# Altium footprint library LABLIB.PcbLib: 95 footprints (part 3 of 6)
Each footprint in its own frame and in the unit in brackets; x right, y up, seen from the top. Pads: shape width x height; smd on the part's side, far side on the other; paste and mask are expansions set on the pad; w line width, h text height; cw(c..) or ccw(c..) is an arc to the next point about the centre after c.
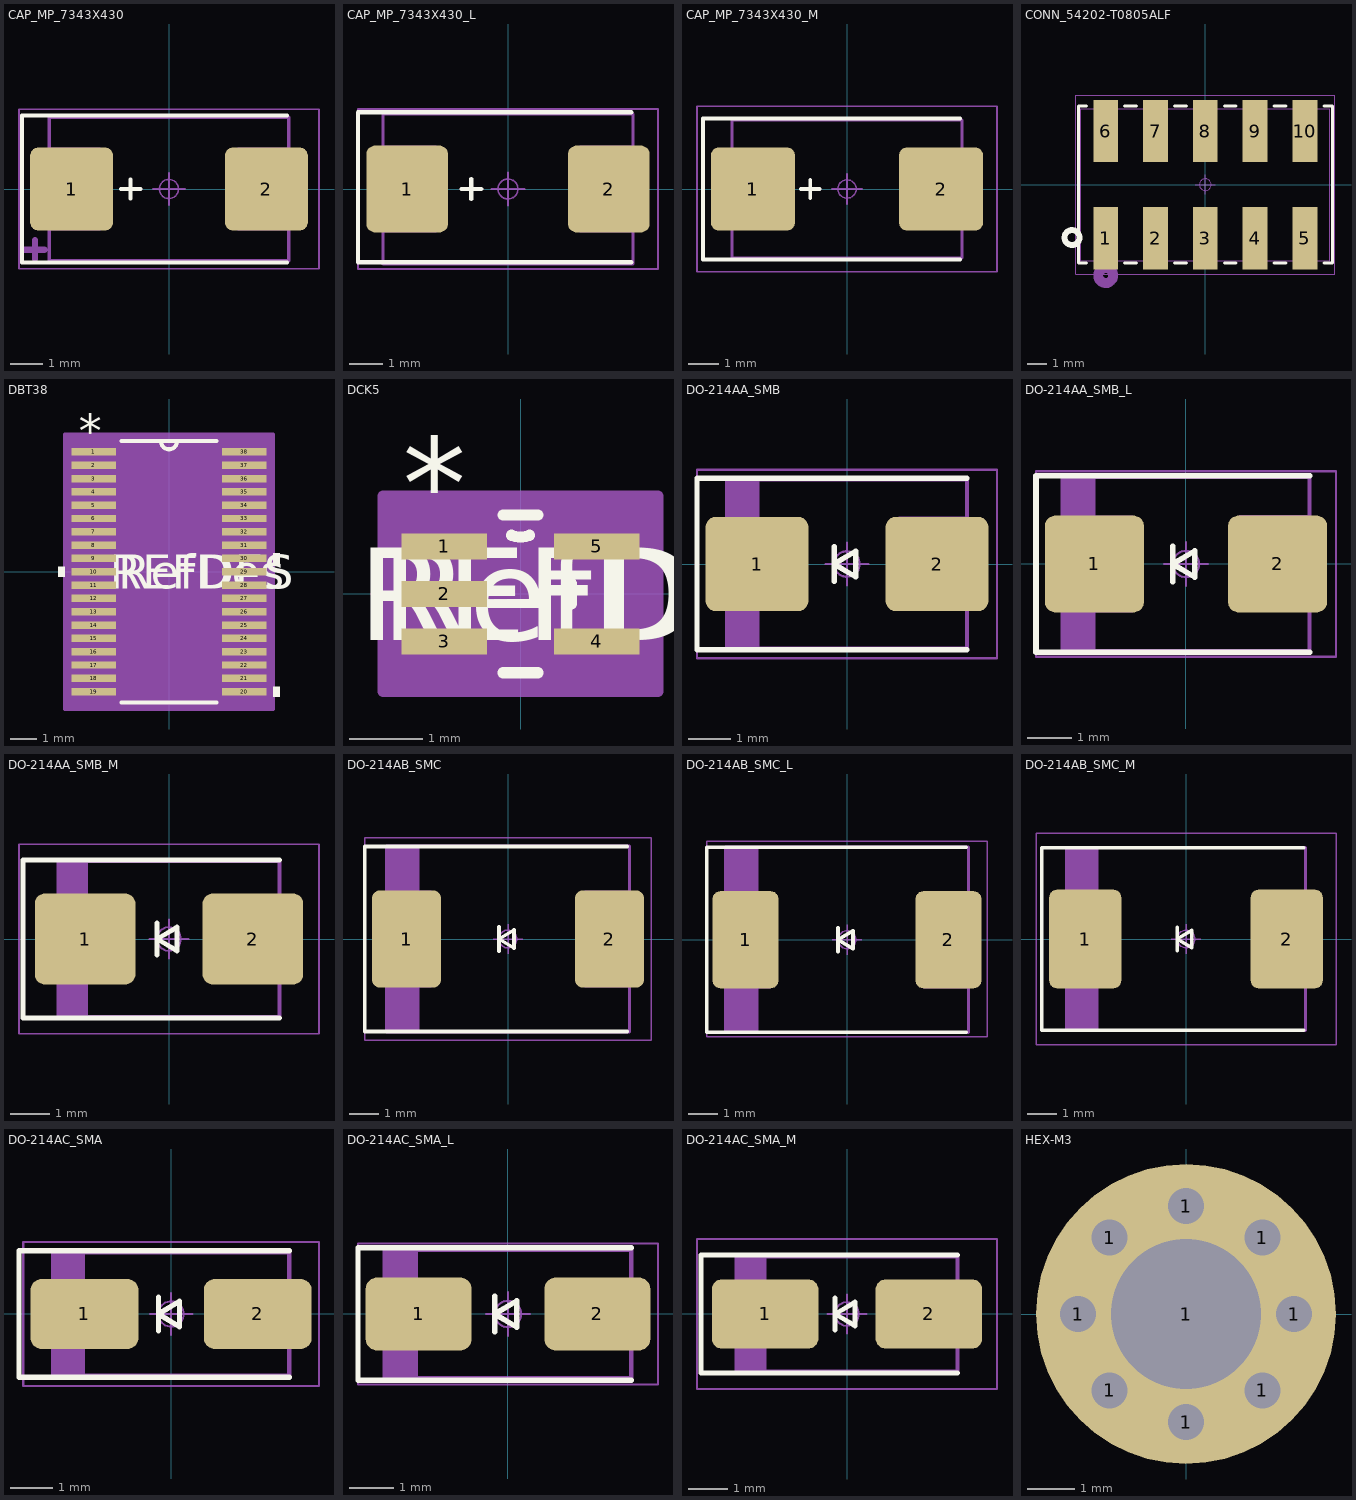
[diagram p2: the footprints below, top view; thin cyan lines are the x and y axes]

## CAP_MP_7343X430 [mm] "Molded Capacitor, 2-Leads, Body 7.30x4.35mm, IPC Medium Density"
height 4.3
pads (2):
  rrect19% 2.6x2.6 smd: 1(-3.05,0) 2(3.05,0)
Top Overlay:
  lines w0.125: -1.5,0 -0.9,0 ; -1.2,-0.3 -1.2,0.3 ; 3.7,-2.3 -4.6,-2.3 -4.6,2.3 3.7,2.3
Top Assembly:
  lines w0.1: -3.75,-2.25 -3.75,2.25 3.75,2.25 3.75,-2.25 -3.75,-2.25
  lines w0.2: -4.5,-1.9 -3.9,-1.9 ; -4.2,-2.2 -4.2,-1.9 ; -4.2,-1.6 -4.2,-1.9 ; -4.2,-1.9 -4.2,-1.9
  text "'.Designator'" at -3.952,-0.622 h1.5
Top Courtyard:
  lines w0.05: -4.7,-2.5 -4.7,2.5 4.7,2.5 4.7,-2.5 -4.7,-2.5
Top Component Outline:
  rectangle: -3.75,-1.3 -2.15,1.3
  region: 3.75,1.3 2.15,1.3 2.15,-1.3 3.75,-1.3
  lines w0.05: -3.75,-2.25 -3.75,2.25 3.75,2.25 3.75,-2.25 -3.75,-2.25
Top Component Center:
  circle w0.05: c0,0 r0.3
  lines w0.05: -0.5,0 0.5,0 ; 0,-0.5 0,0.5
3D body "TAJE_AVX.step": height 4.37, standoff 0, extent -3.746,-2.248 3.746,2.248

## CAP_MP_7343X430_L [mm] "Molded Capacitor, 2-Leads, Body 7.30x4.35mm, IPC Medium Density"
height 4.3
pads (2):
  rrect20% 2.45x2.6 smd: 1(-3.025,0) 2(3.025,0)
Top Overlay:
  lines w0.125: -1.4,0 -0.8,0 ; -1.1,-0.3 -1.1,0.3 ; 3.7,-2.2 -4.5,-2.2 -4.5,2.3 3.7,2.3
Top Assembly:
  lines w0.1: -3.75,-2.25 -3.75,2.25 3.75,2.25 3.75,-2.25 -3.75,-2.25
  text "'.Designator'" at -3.952,-0.622 h1.5
Top Courtyard:
  lines w0.05: -4.5,-2.4 -4.5,2.4 4.5,2.4 4.5,-2.4 -4.5,-2.4
Top Component Outline:
  rectangle: -3.75,-1.3 -2.15,1.3
  region: 3.75,1.3 2.15,1.3 2.15,-1.3 3.75,-1.3
  lines w0.05: -3.75,-2.25 -3.75,2.25 3.75,2.25 3.75,-2.25 -3.75,-2.25
Top Component Center:
  circle w0.05: c0,0 r0.3
  lines w0.05: -0.5,0 0.5,0 ; 0,-0.5 0,0.5
3D body "TAJE_AVX.step": height 4.37, standoff 0, extent -3.746,-2.248 3.746,2.248

## CAP_MP_7343X430_M [mm] "Molded Capacitor, 2-Leads, Body 7.30x4.35mm, IPC Medium Density"
height 4.3
pads (2):
  rrect18% 2.75x2.7 smd: 1(-3.075,0) 2(3.075,0)
Top Overlay:
  lines w0.125: -1.5,0 -0.9,0 ; -1.2,-0.3 -1.2,0.3 ; 3.7,-2.3 -4.7,-2.3 -4.7,2.3 3.7,2.3
Top Assembly:
  lines w0.1: -3.75,-2.25 -3.75,2.25 3.75,2.25 3.75,-2.25 -3.75,-2.25
  text "'.Designator'" at -3.952,-0.622 h1.5
Top Courtyard:
  lines w0.05: -4.9,-2.7 4.9,-2.7 4.9,2.7 -4.9,2.7 -4.9,-2.7
Top Component Outline:
  region: 3.75,1.3 2.15,1.3 2.15,-1.3 3.75,-1.3
  rectangle: -3.75,-1.3 -2.15,1.3
  lines w0.05: -3.75,-2.25 3.75,-2.25 3.75,2.25 -3.75,2.25 -3.75,-2.25
Top Component Center:
  circle w0.05: c0,0 r0.3
  lines w0.05: -0.5,0 0.5,0 ; 0,-0.5 0,0.5
3D body "TAJE_AVX.step": height 4.37, standoff 0, extent -3.746,-2.248 3.746,2.248

## CONN_54202-T0805ALF [mil]
pads (10):
  rect 50x125 smd paste+0 mask+0: 1(-200,-107.5) 2(-100,-107.5) 3(0,-107.5) 4(100,-107.5) 5(200,-107.5) 6(-200,107.5) 7(-100,107.5) 8(0,107.5) 9(100,107.5) 10(200,107.5)
Top Overlay:
  circle w11.81: c-267.72,-106.3 r15
  lines w6: -238.1,-157.5 -255,-157.5 -255,157.5 -238.1,157.5 ; -161.9,-157.5 -138.1,-157.5 ; -161.9,157.5 -138.1,157.5 ; -61.9,-157.5 -38.1,-157.5 ; -61.9,157.5 -38.1,157.5 ; 38.1,-157.5 61.9,-157.5 ; 38.1,157.5 61.9,157.5 ; 138.1,-157.5 161.9,-157.5 ; 138.1,157.5 161.9,157.5 ; 238.1,-157.5 255,-157.5 255,157.5 238.1,157.5
Bottom Overlay:
  circle w20: c-325,-107.5 r15
Top Assembly:
  circle w20: c-200,-182.5 r15
  lines w1: -250,-152.5 250,-152.5 250,152.5 -250,152.5 -250,-152.5
  text "'.Designator'" at -155.57,-24.48 h59.06
Top Courtyard:
  lines w1.97: -260,-180 -260,180 260,180 260,-180 -260,-180
Top Component Center:
  circle w1.97: c0,0 r11.81
  lines w1.97: -19.68,0 19.68,0 ; 0,-19.68 0,19.68
3D body "54202-T0805ALF.STEP": height 379.92, standoff 0, extent -250,-145.08 250,145.08

## DBT38 [mil]
pads (38):
  rect 66x11 smd paste-33 mask-33: 1(-111,177.17) 2(-111,157.48) 3(-111,137.8) 4(-111,118.11) 5(-111,98.43) 6(-111,78.74) 7(-111,59.06) 8(-111,39.37) 9(-111,19.68) 10(-111,0) 11(-111,-19.68) 12(-111,-39.37) 13(-111,-59.06) 14(-111,-78.74) 15(-111,-98.43) 16(-111,-118.11) 17(-111,-137.8) 18(-111,-157.48) 19(-111,-177.17) 20(111,-177.17) 21(111,-157.48) 22(111,-137.8) 23(111,-118.11) 24(111,-98.43) 25(111,-78.74) 26(111,-59.06) 27(111,-39.37) 28(111,-19.68) 29(111,0) 30(111,19.69) 31(111,39.37) 32(111,59.06) 33(111,78.74) 34(111,98.43) 35(111,118.11) 36(111,137.8) 37(111,157.48) 38(111,177.17)
Top Overlay:
  region: -154,7.5 -164,7.5 -164,-7.5 -154,-7.5
  region: 154,-169.67 164,-169.67 164,-184.67 154,-184.67
  region: 154,27.19 164,27.19 164,12.19 154,12.19
  lines w6: -69.95,-193 69.95,-193 ; -69.95,193 69.95,193 ; -12,193 ccw(c0,193) 12,193
  text "*" at -133.5,183.17 h50
  text "RefDes" at -75,-25 h50
  text "REFDES" at -87.5,-25 h50
Mechanical 13:
  drawing of 157 lines, arcs and shapes, not listed
  text "*" at -133.5,183.17 h50
  text "RefDes2" at -87.5,-25 h50
Mechanical 15:
  region: 154,-203 -154,-203 -154,203 154,203
  lines w6: -154,-203 -154,203 154,203 154,-203 -154,-203
3D body "DBT38.step": height 47.09, standoff 0, extent -130,-192.99 130,192.99

## DCK5 [mil]
pads (5):
  rect 46x14 smd paste-23 mask-23: 1(-41,25.59) 2(-41,0) 3(-41,-25.59) 4(41,-25.59) 5(41,25.59)
Top Overlay:
  lines w6: -9.43,-42.5 9.43,-42.5 ; -9.43,42.5 9.43,42.5 ; -4.9,31.55 ccw(c0,42.5) 4.9,31.55 ; 27.5,-5.49 27.5,5.49
  text "*" at -63.5,34.59 h50
  text "RefDes" at -75,-25 h50
  text "REFDES" at -87.5,-25 h50
Mechanical 13:
  lines w0: -12,42.5 ccw(c0,42.5) 12,42.5
  lines w1: -47,-31.59 -47,-19.59 -27.5,-19.59 -27.5,-31.59 -47,-31.59 ; -47,-6 -47,6 -27.5,6 -27.5,-6 -47,-6 ; -47,19.59 -47,31.59 -27.5,31.59 -27.5,19.59 -47,19.59 ; -27.5,-42.5 27.5,-42.5 27.5,42.5 -27.5,42.5 -27.5,-42.5 ; 27.5,-31.59 27.5,-19.59 47,-19.59 47,-31.59 27.5,-31.59 ; 27.5,19.59 27.5,31.59 47,31.59 47,19.59 27.5,19.59
  text "*" at -63.5,34.59 h50
  text "RefDes2" at -87.5,-25 h50
Mechanical 15:
  region: 74,-52.5 -74,-52.5 -74,52.5 74,52.5
  lines w6: -74,-52.5 -74,52.5 74,52.5 74,-52.5 -74,-52.5
3D body "DCK5.step": height 43.11, standoff 0, extent -47.01,-42.52 47.01,42.52

## DO-214AA_SMB [mm] "Molded Diode, 2-Leads, Body 5.40x3.63mm, IPC Medium Density"
height 2.47
pads (2):
  rrect22% 2.4x2.2 smd: 1(-2.1,0) 2(2.1,0)
Top Overlay:
  lines w0.12: 2.8,-2 -3.5,-2 -3.5,2 2.8,2
  lines w0.125: -0.3,-0.4 -0.3,0.4 ; -0.3,0 0.2,-0.3 0.2,0.3 -0.3,0
Top Assembly:
  rectangle: -2.8,-1.975 -2.047,1.975
  lines w0.1: -2.8,-1.975 2.8,-1.975 2.8,1.975 -2.8,1.975 -2.8,-1.975
  text "'.Designator'" at -3.952,-0.622 h1.5
Top Courtyard:
  lines w0.05: -3.5,-2.2 -3.5,2.2 3.5,2.2 3.5,-2.2 -3.5,-2.2
Top Component Outline:
  region: 2.798,1.107 1.198,1.107 1.198,-1.093 2.798,-1.093
  rectangle: -2.8,-1.1 -1.2,1.1
  lines w0.05: -2.8,-1.975 2.8,-1.975 2.8,1.975 -2.8,1.975 -2.8,-1.975
Top Component Center:
  circle w0.05: c0,0 r0.3
  lines w0.05: -0.5,0 0.5,0 ; 0,-0.5 0,0.5
3D body "5BT.STEP": height 2.44, standoff 0, extent -2.699,-1.81 2.699,1.81

## DO-214AA_SMB_L [mm] "Molded Diode, 2-Leads, Body 5.40x3.63mm, IPC Medium Density"
height 2.47
pads (2):
  rrect22% 2.25x2.2 smd: 1(-2.075,0) 2(2.075,0)
Top Overlay:
  lines w0.125: -0.3,-0.4 -0.3,0.4 ; 2.8,-2 -3.4,-2 -3.4,2 2.8,2 ; -0.3,0 0.2,-0.3 0.2,0.3 -0.3,0
Top Assembly:
  rectangle: -2.8,-1.975 -2.047,1.975
  lines w0.1: -2.8,-1.975 2.8,-1.975 2.8,1.975 -2.8,1.975 -2.8,-1.975
  text "'.Designator'" at -3.952,-0.622 h1.5
Top Courtyard:
  lines w0.05: -3.4,-2.1 3.4,-2.1 3.4,2.1 -3.4,2.1 -3.4,-2.1
Top Component Outline:
  rectangle: -2.8,-1.1 -1.2,1.1
  region: 2.798,1.107 1.198,1.107 1.198,-1.093 2.798,-1.093
  lines w0.05: -2.8,-1.975 -2.8,1.975 2.8,1.975 2.8,-1.975 -2.8,-1.975
Top Component Center:
  circle w0.05: c0,0 r0.3
  lines w0.05: -0.5,0 0.5,0 ; 0,-0.5 0,0.5
3D body "5BT.STEP": height 2.44, standoff 0, extent -2.699,-1.81 2.699,1.81

## DO-214AA_SMB_M [mm] "Molded Diode, 2-Leads, Body 5.40x3.63mm, IPC Medium Density"
height 2.47
pads (2):
  rrect21% 2.55x2.3 smd: 1(-2.125,0) 2(2.125,0)
Top Overlay:
  lines w0.125: -0.3,-0.4 -0.3,0.4 ; 2.8,-2 -3.7,-2 -3.7,2 2.8,2 ; -0.3,0 0.2,-0.3 0.2,0.3 -0.3,0
Top Assembly:
  rectangle: -2.8,-1.975 -2.047,1.975
  lines w0.1: -2.8,-1.975 -2.8,1.975 2.8,1.975 2.8,-1.975 -2.8,-1.975
  text "'.Designator'" at -3.952,-0.622 h1.5
Top Courtyard:
  lines w0.05: -3.8,-2.4 -3.8,2.4 3.8,2.4 3.8,-2.4 -3.8,-2.4
Top Component Outline:
  region: 2.798,1.107 1.198,1.107 1.198,-1.093 2.798,-1.093
  rectangle: -2.8,-1.1 -1.2,1.1
  lines w0.05: -2.8,-1.975 2.8,-1.975 2.8,1.975 -2.8,1.975 -2.8,-1.975
Top Component Center:
  circle w0.05: c0,0 r0.3
  lines w0.05: -0.5,0 0.5,0 ; 0,-0.5 0,0.5
3D body "5BT.STEP": height 2.44, standoff 0, extent -2.699,-1.81 2.699,1.81

## DO-214AB_SMC [mm] "Molded Diode, 2-Leads, Body 7.94x5.91mm, IPC Medium Density"
height 2.62
pads (2):
  rrect21% 2.3x3.25 smd: 1(-3.4,0) 2(3.4,0)
Top Overlay:
  lines w0.12: 4,-3.1 -4.8,-3.1 -4.8,3.1 4,3.1
  lines w0.125: -0.3,-0.4 -0.3,0.4 ; -0.3,0 0.2,0.3 0.2,-0.3 -0.3,0
Top Assembly:
  rectangle: -4.065,-3.11 -2.972,3.11
  lines w0.1: -4.065,-3.11 -4.065,3.11 4.065,3.11 4.065,-3.11 -4.065,-3.11
  text "'.Designator'" at -3.952,-0.622 h1.5
Top Courtyard:
  lines w0.05: -4.8,-3.4 -4.8,3.4 4.8,3.4 4.8,-3.4 -4.8,-3.4
Top Component Outline:
  rectangle: -4.075,-1.625 -2.555,1.625
  region: 4.075,1.625 2.555,1.625 2.555,-1.625 4.075,-1.625
  lines w0.05: -4.065,-3.11 -4.065,3.11 4.065,3.11 4.065,-3.11 -4.065,-3.11
Top Component Center:
  circle w0.05: c0,0 r0.3
  lines w0.05: -0.5,0 0.5,0 ; 0,-0.5 0,0.5
3D body "9AT.STEP": height 2.62, standoff 0, extent -3.969,-2.959 3.969,2.959

## DO-214AB_SMC_L [mm] "Molded Diode, 2-Leads, Body 7.94x5.91mm, IPC Medium Density"
height 2.62
pads (2):
  rrect22% 2.2x3.25 smd: 1(-3.4,0) 2(3.4,0)
Top Overlay:
  lines w0.12: 4,-3.1 -4.7,-3.1 -4.7,3.1 4,3.1
  lines w0.125: -0.3,-0.4 -0.3,0.4 ; -0.3,0 0.2,-0.3 0.2,0.3 -0.3,0
Top Assembly:
  rectangle: -4.065,-3.11 -2.972,3.11
  lines w0.1: -4.065,-3.11 4.065,-3.11 4.065,3.11 -4.065,3.11 -4.065,-3.11
  text "'.Designator'" at -3.952,-0.622 h1.5
Top Courtyard:
  lines w0.05: -4.7,-3.25 -4.7,3.3 4.7,3.3 4.7,-3.25 -4.7,-3.25
Top Component Outline:
  region: 4.075,1.625 2.555,1.625 2.555,-1.625 4.075,-1.625
  rectangle: -4.075,-1.625 -2.555,1.625
  lines w0.05: -4.065,-3.11 4.065,-3.11 4.065,3.11 -4.065,3.11 -4.065,-3.11
Top Component Center:
  circle w0.05: c0,0 r0.3
  lines w0.05: -0.5,0 0.5,0 ; 0,-0.5 0,0.5
3D body "9AT.STEP": height 2.62, standoff 0, extent -3.969,-2.959 3.969,2.959

## DO-214AB_SMC_M [mm] "Molded Diode, 2-Leads, Body 7.94x5.91mm, IPC Medium Density"
height 2.62
pads (2):
  rrect20% 2.45x3.35 smd: 1(-3.425,0) 2(3.425,0)
Top Overlay:
  lines w0.125: -0.3,-0.4 -0.3,0.4 ; 4,-3.1 -4.9,-3.1 -4.9,3.1 4,3.1 ; -0.3,0 0.2,0.3 0.2,-0.3 -0.3,0
Top Assembly:
  rectangle: -4.065,-3.11 -2.972,3.11
  lines w0.1: -4.065,-3.11 -4.065,3.11 4.065,3.11 4.065,-3.11 -4.065,-3.11
  text "'.Designator'" at -3.952,-0.622 h1.5
Top Courtyard:
  lines w0.05: -5.1,-3.6 5.1,-3.6 5.1,3.6 -5.1,3.6 -5.1,-3.6
Top Component Outline:
  rectangle: -4.075,-1.625 -2.555,1.625
  region: 4.075,1.625 2.555,1.625 2.555,-1.625 4.075,-1.625
  lines w0.05: -4.065,-3.11 -4.065,3.11 4.065,3.11 4.065,-3.11 -4.065,-3.11
Top Component Center:
  circle w0.05: c0,0 r0.3
  lines w0.05: -0.5,0 0.5,0 ; 0,-0.5 0,0.5
3D body "9AT.STEP": height 2.62, standoff 0, extent -3.969,-2.959 3.969,2.959

## DO-214AC_SMA [mm] "Molded Diode, 2-Leads, Body 5.20x2.61mm, IPC Medium Density"
height 2.4
pads (2):
  rrect30% 2.55x1.65 smd: 1(-2.05,0) 2(2.05,0)
Top Overlay:
  lines w0.125: -0.3,-0.4 -0.3,0.4 ; 2.8,-1.5 -3.6,-1.5 -3.6,1.5 2.8,1.5 ; -0.3,0 0.2,-0.3 0.2,0.3 -0.3,0
Top Assembly:
  rectangle: -2.795,-1.46 -2.043,1.46
  lines w0.1: -2.795,-1.46 -2.795,1.46 2.795,1.46 2.795,-1.46 -2.795,-1.46
  text "'.Designator'" at -3.952,-0.622 h1.5
Top Courtyard:
  lines w0.05: -3.5,-1.7 -3.5,1.7 3.5,1.7 3.5,-1.7 -3.5,-1.7
Top Component Outline:
  rectangle: -2.8,-0.815 -1.28,0.815
  region: 2.8,0.815 1.28,0.815 1.28,-0.815 2.8,-0.815
  lines w0.05: -2.795,-1.46 -2.795,1.46 2.795,1.46 2.795,-1.46 -2.795,-1.46
Top Component Center:
  circle w0.05: c0,0 r0.3
  lines w0.05: -0.5,0 0.5,0 ; 0,-0.5 0,0.5
3D body "SMAJ12A-13-F.step": height 2.4, standoff 0, extent -2.598,-1.302 2.598,1.302

## DO-214AC_SMA_L [mm] "Molded Diode, 2-Leads, Body 5.20x2.61mm, IPC Medium Density"
height 2.4
pads (2):
  rrect30% 2.4x1.65 smd: 1(-2.025,0) 2(2.025,0)
Top Overlay:
  lines w0.12: 2.8,-1.5 -3.4,-1.5 -3.4,1.5 2.8,1.5
  lines w0.125: -0.3,-0.4 -0.3,0.4 ; -0.3,0 0.2,-0.3 0.2,0.3 -0.3,0
Top Assembly:
  rectangle: -2.795,-1.46 -2.043,1.46
  lines w0.1: -2.795,-1.46 -2.795,1.46 2.795,1.46 2.795,-1.46 -2.795,-1.46
  text "'.Designator'" at -3.952,-0.622 h1.5
Top Courtyard:
  lines w0.05: -3.4,-1.6 3.4,-1.6 3.4,1.6 -3.4,1.6 -3.4,-1.6
Top Component Outline:
  rectangle: -2.8,-0.815 -1.28,0.815
  region: 2.8,0.815 1.28,0.815 1.28,-0.815 2.8,-0.815
  lines w0.05: -2.795,-1.46 -2.795,1.46 2.795,1.46 2.795,-1.46 -2.795,-1.46
Top Component Center:
  circle w0.05: c0,0 r0.3
  lines w0.05: -0.5,0 0.5,0 ; 0,-0.5 0,0.5
3D body "SMAJ12A-13-F.step": height 2.4, standoff 0, extent -2.598,-1.302 2.598,1.302

## DO-214AC_SMA_M [mm] "Molded Diode, 2-Leads, Body 5.20x2.61mm, IPC Medium Density"
height 2.4
pads (2):
  rrect28% 2.7x1.75 smd: 1(-2.075,0) 2(2.075,0)
Top Overlay:
  lines w0.125: -0.3,-0.4 -0.3,0.4 ; 2.8,-1.5 -3.7,-1.5 -3.7,1.5 2.8,1.5 ; -0.3,0 0.2,-0.3 0.2,0.3 -0.3,0
Top Assembly:
  rectangle: -2.795,-1.46 -2.043,1.46
  lines w0.1: -2.795,-1.46 -2.795,1.46 2.795,1.46 2.795,-1.46 -2.795,-1.46
  text "'.Designator'" at -3.952,-0.622 h1.5
Top Courtyard:
  lines w0.05: -3.8,-1.9 3.8,-1.9 3.8,1.9 -3.8,1.9 -3.8,-1.9
Top Component Outline:
  rectangle: -2.8,-0.815 -1.28,0.815
  region: 2.8,0.815 1.28,0.815 1.28,-0.815 2.8,-0.815
  lines w0.05: -2.795,-1.46 -2.795,1.46 2.795,1.46 2.795,-1.46 -2.795,-1.46
Top Component Center:
  circle w0.05: c0,0 r0.3
  lines w0.05: -0.5,0 0.5,0 ; 0,-0.5 0,0.5
3D body "SMAJ12A-13-F.step": height 2.4, standoff 0, extent -2.598,-1.302 2.598,1.302

## HEX-M3 [mil]
pads (9):
  round 60 hole 30 mask+0: 1(-90,0) 1(-63.64,-63.64) 1(-63.64,63.64) 1(0,-90) 1(0,90) 1(63.64,-63.64) 1(63.64,63.64) 1(90,0)
  round 250 hole 125.2: 1(0,0)